# Altium footprint library TPS63036YFGT.PcbLib: 1 footprints
Each footprint in its own frame and in the unit in brackets; x right, y up, seen from the top. Pads: shape width x height; smd on the part's side, far side on the other; paste and mask are expansions set on the pad; w line width, h text height; cw(c..) or ccw(c..) is an arc to the next point about the centre after c.
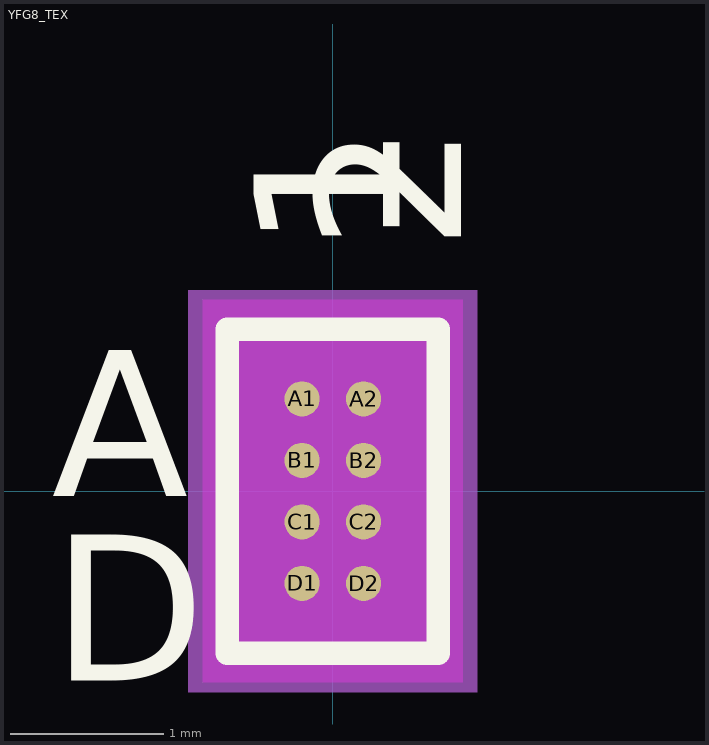
[diagram p0: the footprint, top view; thin cyan lines are the x and y axes]

## YFG8_TEX [mil]
pads (8):
  round 9 smd paste+0 mask+0: A1(-7.87,23.62) A2(7.87,23.62) B1(-7.87,7.88) B2(7.87,7.88) C1(-7.87,-7.88) C2(7.87,-7.88) D1(-7.87,-23.62) D2(7.87,-23.62)
Top Overlay:
  lines w6: -27,-41.5 27,-41.5 27,41.5 -27,41.5 -27,-41.5
  text "A" at -72,-1.38 h50
  text "D" at -72,-48.62 h50
  text "1" at 17.13,61.5 h50
  text "2" at 32.87,61.5 h50
Bottom Overlay:
  text "A" at -47,-1.38 h50
  text "D" at -47,-48.62 h50
  text "1" at -32.87,61.5 h50
  text "2" at -17.13,61.5 h50
Keep-Out Layer:
  region: -33.25,-49 -33.25,49 33.25,49 33.25,-49
Mechanical 5:
  region: 37,-51.5 -37,-51.5 -37,51.5 37,51.5
Mechanical 13:
  lines w1: -22,28.62 -14.13,36.5 ; -22,-36.5 22,-36.5 22,36.5 -22,36.5 -22,-36.5
  text "A" at -72,-1.38 h50
  text "D" at -72,-48.62 h50
  text "1" at 17.13,61.5 h50
  text "2" at 32.87,61.5 h50
Mechanical 15:
  region: 32,-46.5 -32,-46.5 -32,46.5 32,46.5
  lines w6: -32,-46.5 -32,46.5 32,46.5 32,-46.5 -32,-46.5
3D body "YFG8_TEX.step": height 25.12, standoff -0.01, extent -22.01,-36.5 22.01,36.5